# Altium schematic symbol library Custom WROOM32 Board Library.SchLib: 14 symbols
Pins are listed as number, name and electrical type; pins without a type are passive.

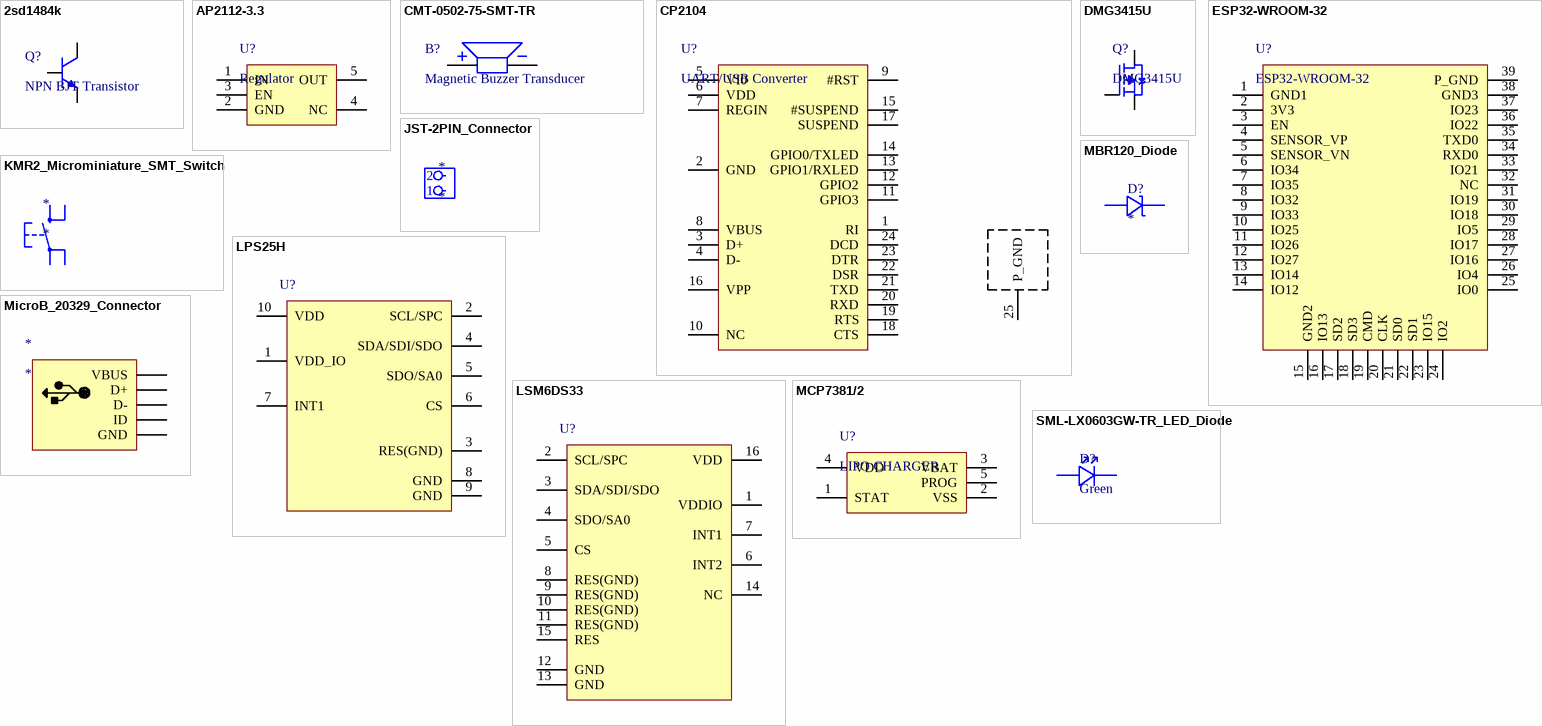
[diagram p0: symbols 2sd1484k to SML-LX0603GW-TR_LED_Diode]

## 2sd1484k
designator Q?, comment NPN BJT Transistor
footprint SOT323
pins: 1 E, 2 B, 3 C

## AP2112-3.3
designator U?, comment Regulator
footprint SOT25
pins: 1 IN, 2 GND, 3 EN, 4 NC, 5 OUT

## CMT-0502-75-SMT-TR
designator B?, comment Magnetic Buzzer Transducer
footprint CMT-0502 Buzzer
pins: 1 +, 2 -

## CP2104
designator U?, comment UART/USB Converter
footprint CP2104-GM
pins: 1 RI, 2 GND, 3 D+, 4 D-, 5 VI0, 6 VDD, 7 REGIN, 8 VBUS, 9 #RST, 10 NC, 11 GPIO3, 12 GPIO2, 13 GPIO1/RXLED, 14 GPIO0/TXLED, 15 #SUSPEND, 16 VPP, 17 SUSPEND, 18 CTS, 19 RTS, 20 RXD, 21 TXD, 22 DSR, 23 DTR, 24 DCD, 25 P_GND

## DMG3415U
designator Q?
footprint SOT323
pins: 1 D, 2 G, 3 S

## ESP32-WROOM-32
designator U?
footprint ESP_WROOM_32
pins: 1 GND1, 2 3V3, 3 EN, 4 SENSOR_VP, 5 SENSOR_VN, 6 IO34, 7 IO35, 8 IO32, 9 IO33, 10 IO25, 11 IO26, 12 IO27, 13 IO14, 14 IO12, 15 GND2, 16 IO13, 17 SD2, 18 SD3, 19 CMD, 20 CLK, 21 SD0, 22 SD1, 23 IO15, 24 IO2, 25 IO0, 26 IO4, 27 IO16, 28 IO17, 29 IO5, 30 IO18, 31 IO19, 32 NC, 33 IO21, 34 RXD0, 35 TXD0, 36 IO22, 37 IO23, 38 GND3, 39 P_GND

## JST-2PIN_Connector
designator *
footprint JST-2PIN
pins: 1, 2

## KMR2_Microminiature_SMT_Switch
designator *
footprint KMR 2 Microswitch
pins: 1, 2, 3, 4

## LPS25H
designator U?
footprint LPS25HB
pins: 1 VDD_IO, 2 SCL/SPC, 3 RES(GND), 4 SDA/SDI/SDO, 5 SDO/SA0, 6 CS, 7 INT1, 8 GND, 9 GND, 10 VDD

## LSM6DS33
designator U?
footprint LSM6DS33
pins: 1 VDDIO, 2 SCL/SPC, 3 SDA/SDI/SDO, 4 SDO/SA0, 5 CS, 6 INT2, 7 INT1, 8 RES(GND), 9 RES(GND), 10 RES(GND), 11 RES(GND), 12 GND, 13 GND, 14 NC, 15 RES, 16 VDD

## MBR120_Diode
designator D?
footprint SML_LED
pins: 1 A, 2 K

## MCP7381/2
designator U?, comment LIPO CHARGER
footprint SOT-23
pins: 1 STAT, 2 VSS, 3 VBAT, 4 VDD, 5 PROG

## MicroB_20329_Connector
designator *
footprint Micro_B_USB_smd
pins: 1 VBUS, 2 D+, 3 D-, 4 ID, 5 GND

## SML-LX0603GW-TR_LED_Diode
designator D?, comment Green
footprint SML_LED
pins: 1 A, 2 K